# Altium footprint library CONN_HDR_2MM.PcbLib: 34 footprints (part 2 of 3)
Each footprint in its own frame and in the unit in brackets; x right, y up, seen from the top. Pads: shape width x height; smd on the part's side, far side on the other; paste and mask are expansions set on the pad; w line width, h text height; cw(c..) or ccw(c..) is an arc to the next point about the centre after c.
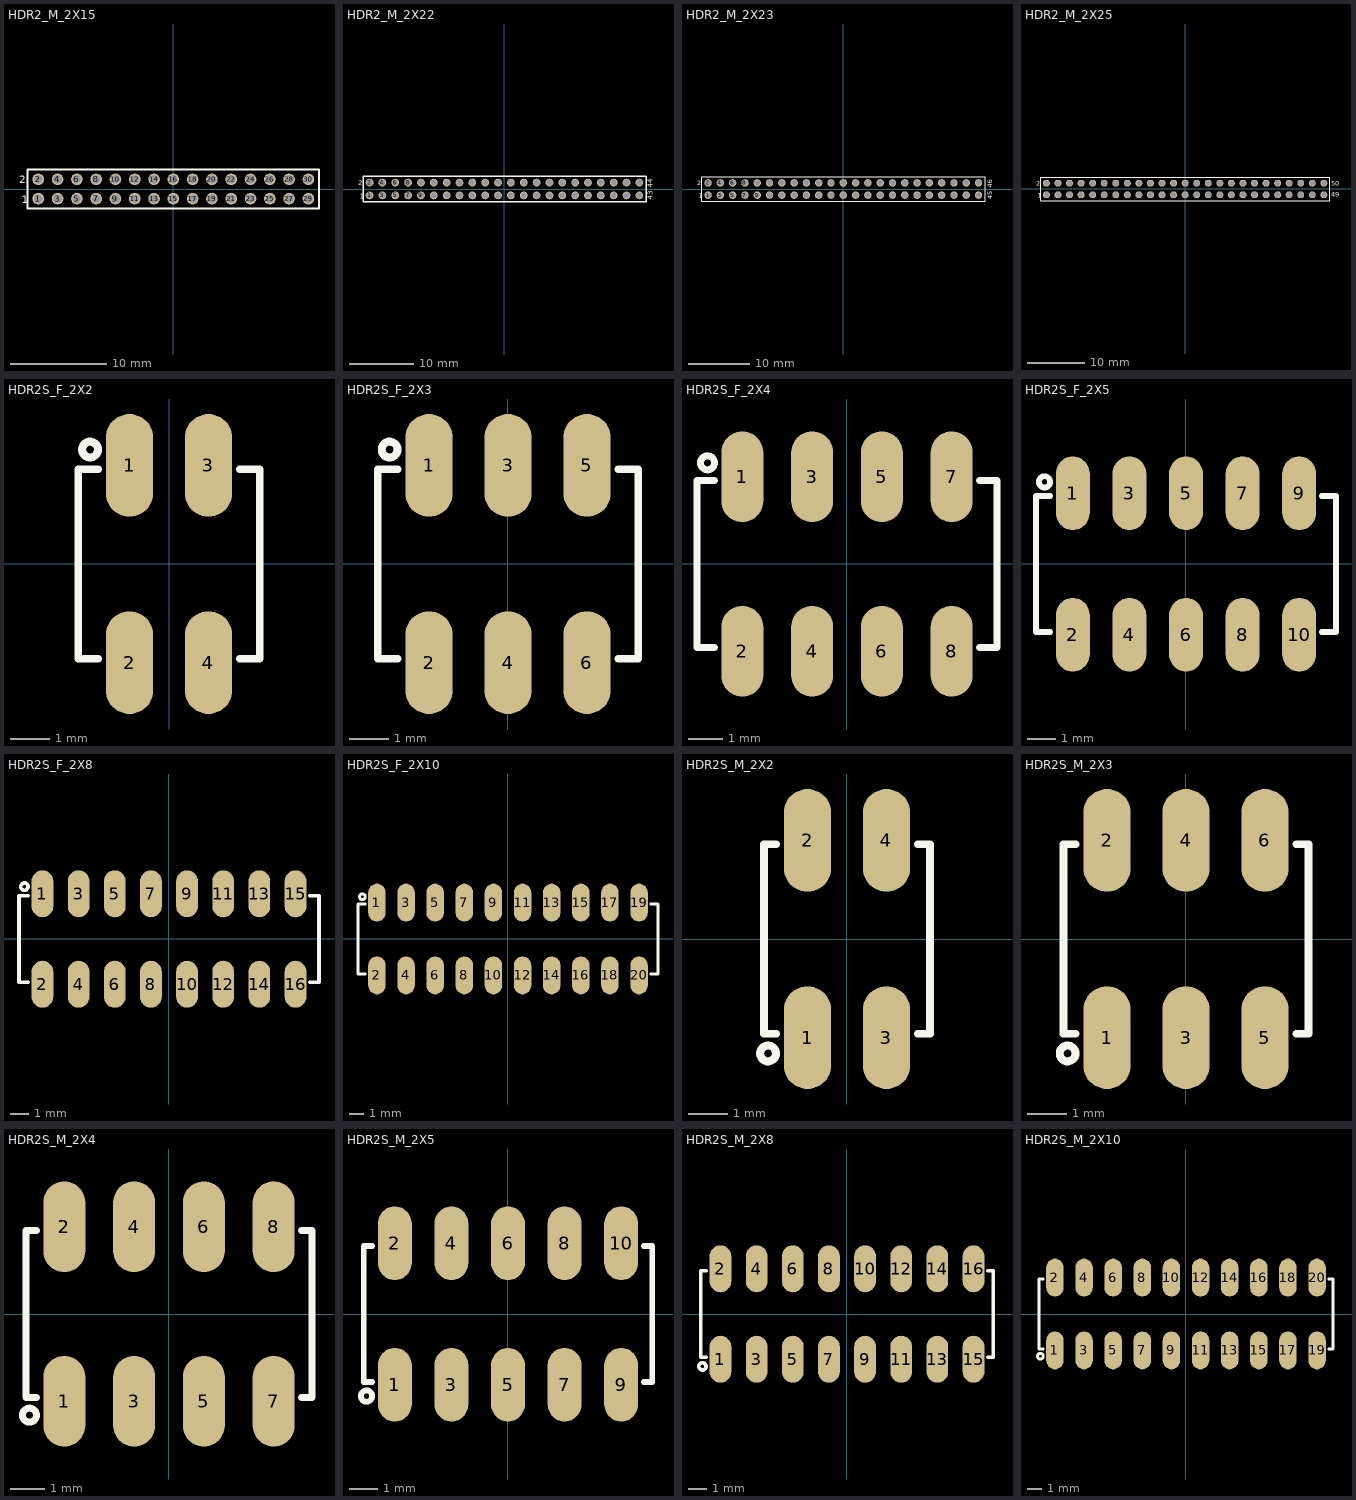
[diagram p1: the footprints below, top view; thin cyan lines are the x and y axes]

## HDR2_M_2X15 [mm] "Connector; Header; 2mm Pitch"
pads (30):
  round 1.2 / inner round 1.2 / far side oval 1.2x1.6 hole 0.9: 1(-14,-1) 2(-14,1) 3(-12,-1) 4(-12,1) 5(-10,-1) 6(-10,1) 7(-8,-1) 8(-8,1) 9(-6,-1) 10(-6,1) 11(-4,-1) 12(-4,1) 13(-2,-1) 14(-2,1) 15(0,-1) 16(0,1) 17(2,-1) 18(2,1) 19(4,-1) 20(4,1) 21(6,-1) 22(6,1) 23(8,-1) 24(8,1) 25(10,-1) 26(10,1) 27(12,-1) 28(12,1) 29(14,-1) 30(14,1)
Top Overlay:
  lines w0.2: -15.1,-2 15.1,-2 15.1,2 -15.1,2 -15.1,-2
  text "1" at -15.7,-1.5 h0.8
  text "2" at -16,0.6 h0.8
3D body "pin_header_a-sl200-dg-g20d.stp": height 6, standoff -2.8, extent -14.95,-2 4.95,2
3D body "pin_header_a-sl200-dg-g10d.stp": height 6, standoff -2.8, extent 5.05,-2 14.95,2

## HDR2_M_2X22 [mm] "Connector; Header; 22x2 Position; 2mm Pitch"
pads (44):
  round 1.2 / inner round 1.2 / far side oval 1.2x1.6 hole 0.9: 1(-21,-1) 2(-21,1) 3(-19,-1) 4(-19,1) 5(-17,-1) 6(-17,1) 7(-15,-1) 8(-15,1) 9(-13,-1) 10(-13,1) 11(-11,-1) 12(-11,1) 13(-9,-1) 14(-9,1) 15(-7,-1) 16(-7,1) 17(-5,-1) 18(-5,1) 19(-3,-1) 20(-3,1) 21(-1,-1) 22(-1,1) 23(1,-1) 24(1,1) 25(3,-1) 26(3,1) 27(5,-1) 28(5,1) 29(7,-1) 30(7,1) 31(9,-1) 32(9,1) 33(11,-1) 34(11,1) 35(13,-1) 36(13,1) 37(15,-1) 38(15,1) 39(17,-1) 40(17,1) 41(19,-1) 42(19,1) 43(21,-1) 44(21,1)
Top Overlay:
  lines w0.2: -22,-2 22.1,-2 22.1,2 -22,2 -22,-2
  text "1" at -22.5,-1.5 h0.8
  text "2" at -22.8,0.6 h0.8
  text "44" at 23.1,0.2 h0.8
  text "43" at 23.1,-1.7 h0.8
3D body "pin_header_a-sl200-dg-g20d.stp": height 6, standoff -2.8, extent -1.95,-2 17.95,2
3D body "pin_header_a-sl200-dg-g20d.stp": height 6, standoff -2.8, extent -21.95,-2 -2.05,2
3D body "pin_header_a-sl200-dg-g04d.stp": height 6, standoff -2.8, extent 18.05,-2 21.95,2

## HDR2_M_2X23 [mm] "Connector; Header; 23x2 Position; 2mm Pitch"
pads (46):
  round 1.2 / inner round 1.2 / far side oval 1.2x1.6 hole 0.9: 1(-22,-1) 2(-22,1) 3(-20,-1) 4(-20,1) 5(-18,-1) 6(-18,1) 7(-16,-1) 8(-16,1) 9(-14,-1) 10(-14,1) 11(-12,-1) 12(-12,1) 13(-10,-1) 14(-10,1) 15(-8,-1) 16(-8,1) 17(-6,-1) 18(-6,1) 19(-4,-1) 20(-4,1) 21(-2,-1) 22(-2,1) 23(0,-1) 24(0,1) 25(2,-1) 26(2,1) 27(4,-1) 28(4,1) 29(6,-1) 30(6,1) 31(8,-1) 32(8,1) 33(10,-1) 34(10,1) 35(12,-1) 36(12,1) 37(14,-1) 38(14,1) 39(16,-1) 40(16,1) 41(18,-1) 42(18,1) 43(20,-1) 44(20,1) 45(22,-1) 46(22,1)
Top Overlay:
  lines w0.2: -23,-2 -23,2 23.1,2 23.1,-2 -23,-2
  text "45" at 24.2,-1.7 h0.8
  text "46" at 24.2,0.2 h0.8
  text "2" at -23.8,0.6 h0.8
  text "1" at -23.5,-1.5 h0.8
3D body "pin_header_a-sl200-dg-g06d.stp": height 6, standoff -2.8, extent 17.05,-2 22.95,2
3D body "pin_header_a-sl200-dg-g20d.stp": height 6, standoff -2.8, extent -22.95,-2 -3.05,2
3D body "pin_header_a-sl200-dg-g20d.stp": height 6, standoff -2.8, extent -2.95,-2 16.95,2

## HDR2_M_2X25 [mm] "Connector; Header; 25x2 Position; 2mm Pitch"
pads (50):
  round 1.2 / inner round 1.2 / far side oval 1.2x1.6 hole 0.9: 1(-24,-1) 2(-24,1) 3(-22,-1) 4(-22,1) 5(-20,-1) 6(-20,1) 7(-18,-1) 8(-18,1) 9(-16,-1) 10(-16,1) 11(-14,-1) 12(-14,1) 13(-12,-1) 14(-12,1) 15(-10,-1) 16(-10,1) 17(-8,-1) 18(-8,1) 19(-6,-1) 20(-6,1) 21(-4,-1) 22(-4,1) 23(-2,-1) 24(-2,1) 25(0,-1) 26(0,1) 27(2,-1) 28(2,1) 29(4,-1) 30(4,1) 31(6,-1) 32(6,1) 33(8,-1) 34(8,1) 35(10,-1) 36(10,1) 37(12,-1) 38(12,1) 39(14,-1) 40(14,1) 41(16,-1) 42(16,1) 43(18,-1) 44(18,1) 45(20,-1) 46(20,1) 47(22,-1) 48(22,1) 49(24,-1) 50(24,1)
Top Overlay:
  lines w0.2: -25,-2 25,-2 25,2 -25,2 -25,-2
  text "1" at -25.5,-1.5 h0.8
  text "50" at 25.3,0.6 h0.8
  text "49" at 25.3,-1.3 h0.8
  text "2" at -25.8,0.6 h0.8
3D body "Header 2.00 mm Milli-Grid TH vert 50w.stp": height 5.75, standoff -2.35, extent -24.95,-2 24.95,2

## HDR2S_F_2X2 [mm] "Header 2.0mm pitch"
pads (4):
  oval 1.2x2.6 smd mask+0.1: 1(-1,2.5) 2(-1,-2.5) 3(1,2.5) 4(1,-2.5)
Top Overlay:
  circle w0.2: c-2,2.9 r0.2
  lines w0.2: -1.8,-2.4 -2.3,-2.4 -2.3,2.4 -1.8,2.4 ; 1.8,-2.4 2.3,-2.4 2.3,2.4 1.8,2.4
3D body "female_header_a-bl200-dg-g04mp1.stp": height 4.6, standoff 0, extent -2.2,-3.35 2.2,3.351

## HDR2S_F_2X3 [mm] "Header 2.0mm pitch"
pads (6):
  oval 1.2x2.6 smd mask+0.1: 1(-2,2.5) 2(-2,-2.5) 3(0,2.5) 4(0,-2.5) 5(2,2.5) 6(2,-2.5)
Top Overlay:
  circle w0.2: c-3,2.9 r0.2
  lines w0.2: -2.8,-2.4 -3.3,-2.4 -3.3,2.4 -2.8,2.4 ; 2.8,-2.4 3.3,-2.4 3.3,2.4 2.8,2.4
3D body "female_header_a-bl200-dg-g06mp1.stp": height 4.6, standoff 0, extent -3.2,-3.35 3.2,3.351

## HDR2S_F_2X4 [mm] "Header 2.0mm pitch"
pads (8):
  oval 1.2x2.6 smd mask+0.1: 1(-3,2.5) 2(-3,-2.5) 3(-1,2.5) 4(-1,-2.5) 5(1,2.5) 6(1,-2.5) 7(3,2.5) 8(3,-2.5)
Top Overlay:
  circle w0.2: c-4,2.9 r0.2
  lines w0.2: -3.8,-2.4 -4.3,-2.4 -4.3,2.4 -3.8,2.4 ; 3.8,-2.4 4.3,-2.4 4.3,2.4 3.8,2.4
3D body "female_header_a-bl200-dg-g08mp1.stp": height 4.6, standoff 0, extent -4.2,-3.35 4.2,3.351

## HDR2S_F_2X5 [mm] "Header 2.0mm pitch"
height 1.2
pads (10):
  oval 1.2x2.6 smd mask+0.1: 1(-4,2.5) 2(-4,-2.5) 3(-2,2.5) 4(-2,-2.5) 5(0,2.5) 6(0,-2.5) 7(2,2.5) 8(2,-2.5) 9(4,2.5) 10(4,-2.5)
Top Overlay:
  circle w0.2: c-5,2.9 r0.2
  lines w0.2: -4.8,-2.4 -5.3,-2.4 -5.3,2.4 -4.8,2.4 ; 4.8,-2.4 5.3,-2.4 5.3,2.4 4.8,2.4
3D body "female_header_a-bl200-dg-g06mp1.stp": height 4.6, standoff 0, extent -1.2,-3.35 5.2,3.351
3D body "female_header_a-bl200-dg-g04mp1.stp": height 4.6, standoff 0, extent -5.2,-3.35 -0.8,3.351

## HDR2S_F_2X8 [mm] "Header 2.0mm pitch"
height 1.2
pads (16):
  oval 1.2x2.6 smd mask+0.1: 1(-7,2.5) 2(-7,-2.5) 3(-5,2.5) 4(-5,-2.5) 5(-3,2.5) 6(-3,-2.5) 7(-1,2.5) 8(-1,-2.5) 9(1,2.5) 10(1,-2.5) 11(3,2.5) 12(3,-2.5) 13(5,2.5) 14(5,-2.5) 15(7,2.5) 16(7,-2.5)
Top Overlay:
  circle w0.2: c-8,2.9 r0.2
  lines w0.2: -7.8,-2.4 -8.3,-2.4 -8.3,2.4 -7.8,2.4 ; 7.8,-2.4 8.3,-2.4 8.3,2.4 7.8,2.4
3D body "female_header_a-bl200-dg-g16mp1.stp": height 4.6, standoff 0, extent -8.2,-3.35 8.2,3.351

## HDR2S_F_2X10 [mm] "Header 2.0mm pitch"
height 1.2
pads (20):
  oval 1.2x2.6 smd mask+0.1: 1(-9,2.5) 2(-9,-2.5) 3(-7,2.5) 4(-7,-2.5) 5(-5,2.5) 6(-5,-2.5) 7(-3,2.5) 8(-3,-2.5) 9(-1,2.5) 10(-1,-2.5) 11(1,2.5) 12(1,-2.5) 13(3,2.5) 14(3,-2.5) 15(5,2.5) 16(5,-2.5) 17(7,2.5) 18(7,-2.5) 19(9,2.5) 20(9,-2.5)
Top Overlay:
  circle w0.2: c-10,2.9 r0.2
  lines w0.2: -9.8,-2.4 -10.3,-2.4 -10.3,2.4 -9.8,2.4 ; 9.8,-2.4 10.3,-2.4 10.3,2.4 9.8,2.4
3D body "female_header_a-bl200-dg-g20mp1.stp": height 4.6, standoff 0, extent -10.2,-3.35 10.2,3.351

## HDR2S_M_2X2 [mm] "Header 2.0mm pitch"
pads (4):
  oval 1.2x2.6 smd mask+0.1: 1(-1,-2.5) 2(-1,2.5) 3(1,-2.5) 4(1,2.5)
Top Overlay:
  circle w0.2: c-2,-2.9 r0.2
  lines w0.2: -1.8,-2.4 -2.1,-2.4 -2.1,2.4 -1.8,2.4 ; 1.8,-2.4 2.1,-2.4 2.1,2.4 1.8,2.4
3D body "pin_header_a-sl200-dg-g04mp1.stp": height 6.5, standoff 0, extent -1.975,-3.25 1.975,3.25

## HDR2S_M_2X3 [mm] "Header 2.0mm pitch"
pads (6):
  oval 1.2x2.6 smd mask+0.1: 1(-2,-2.5) 2(-2,2.5) 3(0,-2.5) 4(0,2.5) 5(2,-2.5) 6(2,2.5)
Top Overlay:
  circle w0.2: c-3,-2.9 r0.2
  lines w0.2: -2.8,-2.4 -3.1,-2.4 -3.1,2.4 -2.8,2.4 ; 2.8,-2.4 3.1,-2.4 3.1,2.4 2.8,2.4
3D body "pin_header_a-sl200-dg-g06mp1.stp": height 6.5, standoff 0, extent -2.975,-3.25 2.975,3.25

## HDR2S_M_2X4 [mm] "Header 2.0mm pitch"
pads (8):
  oval 1.2x2.6 smd mask+0.1: 1(-3,-2.5) 2(-3,2.5) 3(-1,-2.5) 4(-1,2.5) 5(1,-2.5) 6(1,2.5) 7(3,-2.5) 8(3,2.5)
Top Overlay:
  circle w0.2: c-4,-2.9 r0.2
  lines w0.2: -3.8,-2.4 -4.1,-2.4 -4.1,2.4 -3.8,2.4 ; 3.8,-2.4 4.1,-2.4 4.1,2.4 3.8,2.4
3D body "pin_header_a-sl200-dg-g08mp1.stp": height 6.5, standoff 0, extent -3.975,-3.25 3.975,3.25

## HDR2S_M_2X5 [mm] "Header 2.0mm pitch"
height 1.2
pads (10):
  oval 1.2x2.6 smd mask+0.1: 1(-4,-2.5) 2(-4,2.5) 3(-2,-2.5) 4(-2,2.5) 5(0,-2.5) 6(0,2.5) 7(2,-2.5) 8(2,2.5) 9(4,-2.5) 10(4,2.5)
Top Overlay:
  circle w0.2: c-5,-2.9 r0.2
  lines w0.2: -4.8,-2.4 -5.1,-2.4 -5.1,2.4 -4.8,2.4 ; 4.8,-2.4 5.1,-2.4 5.1,2.4 4.8,2.4
3D body "pin_header_a-sl200-dg-g04mp1.stp": height 6.5, standoff 0, extent -4.975,-3.25 -1.025,3.25
3D body "pin_header_a-sl200-dg-g06mp1.stp": height 6.5, standoff 0, extent -0.975,-3.25 4.975,3.25

## HDR2S_M_2X8 [mm] "Header 2.0mm pitch"
height 1.2
pads (16):
  oval 1.2x2.6 smd mask+0.1: 1(-7,-2.5) 2(-7,2.5) 3(-5,-2.5) 4(-5,2.5) 5(-3,-2.5) 6(-3,2.5) 7(-1,-2.5) 8(-1,2.5) 9(1,-2.5) 10(1,2.5) 11(3,-2.5) 12(3,2.5) 13(5,-2.5) 14(5,2.5) 15(7,-2.5) 16(7,2.5)
Top Overlay:
  circle w0.2: c-8,-2.9 r0.2
  lines w0.2: -7.8,-2.4 -8.1,-2.4 -8.1,2.4 -7.8,2.4 ; 7.8,-2.4 8.1,-2.4 8.1,2.4 7.8,2.4
3D body "pin_header_a-sl200-dg-g16mp1.stp": height 6.5, standoff 0, extent -7.975,-3.25 7.975,3.25

## HDR2S_M_2X10 [mm] "Header 2.0mm pitch"
height 1.2
pads (20):
  oval 1.2x2.6 smd mask+0.1: 1(-9,-2.5) 2(-9,2.5) 3(-7,-2.5) 4(-7,2.5) 5(-5,-2.5) 6(-5,2.5) 7(-3,-2.5) 8(-3,2.5) 9(-1,-2.5) 10(-1,2.5) 11(1,-2.5) 12(1,2.5) 13(3,-2.5) 14(3,2.5) 15(5,-2.5) 16(5,2.5) 17(7,-2.5) 18(7,2.5) 19(9,-2.5) 20(9,2.5)
Top Overlay:
  circle w0.2: c-10,-2.9 r0.2
  lines w0.2: -9.8,-2.4 -10.1,-2.4 -10.1,2.4 -9.8,2.4 ; 9.8,-2.4 10.1,-2.4 10.1,2.4 9.8,2.4
3D body "pin_header_a-sl200-dg-g20mp1.stp": height 6.5, standoff 0, extent -9.975,-3.25 9.975,3.25